# Altium schematic symbol library Fujitsu.SchLib: 1 symbol
Pins are listed as number, name and electrical type; pins without a type are passive.

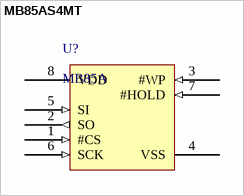
[diagram p0: symbol MB85AS4MT]

## MB85AS4MT
designator U?, comment MB85A
pins: 1 #CS (in), 2 SO (out), 3 #WP (in), 4 VSS (power), 5 SI (in), 6 SCK (in), 7 #HOLD (in), 8 VDD (power)